# Altium integrated library Linear Technology Power Management Switching Regulator LT1074-LT8705.IntLib: 2252 symbols (part 106 of 148)
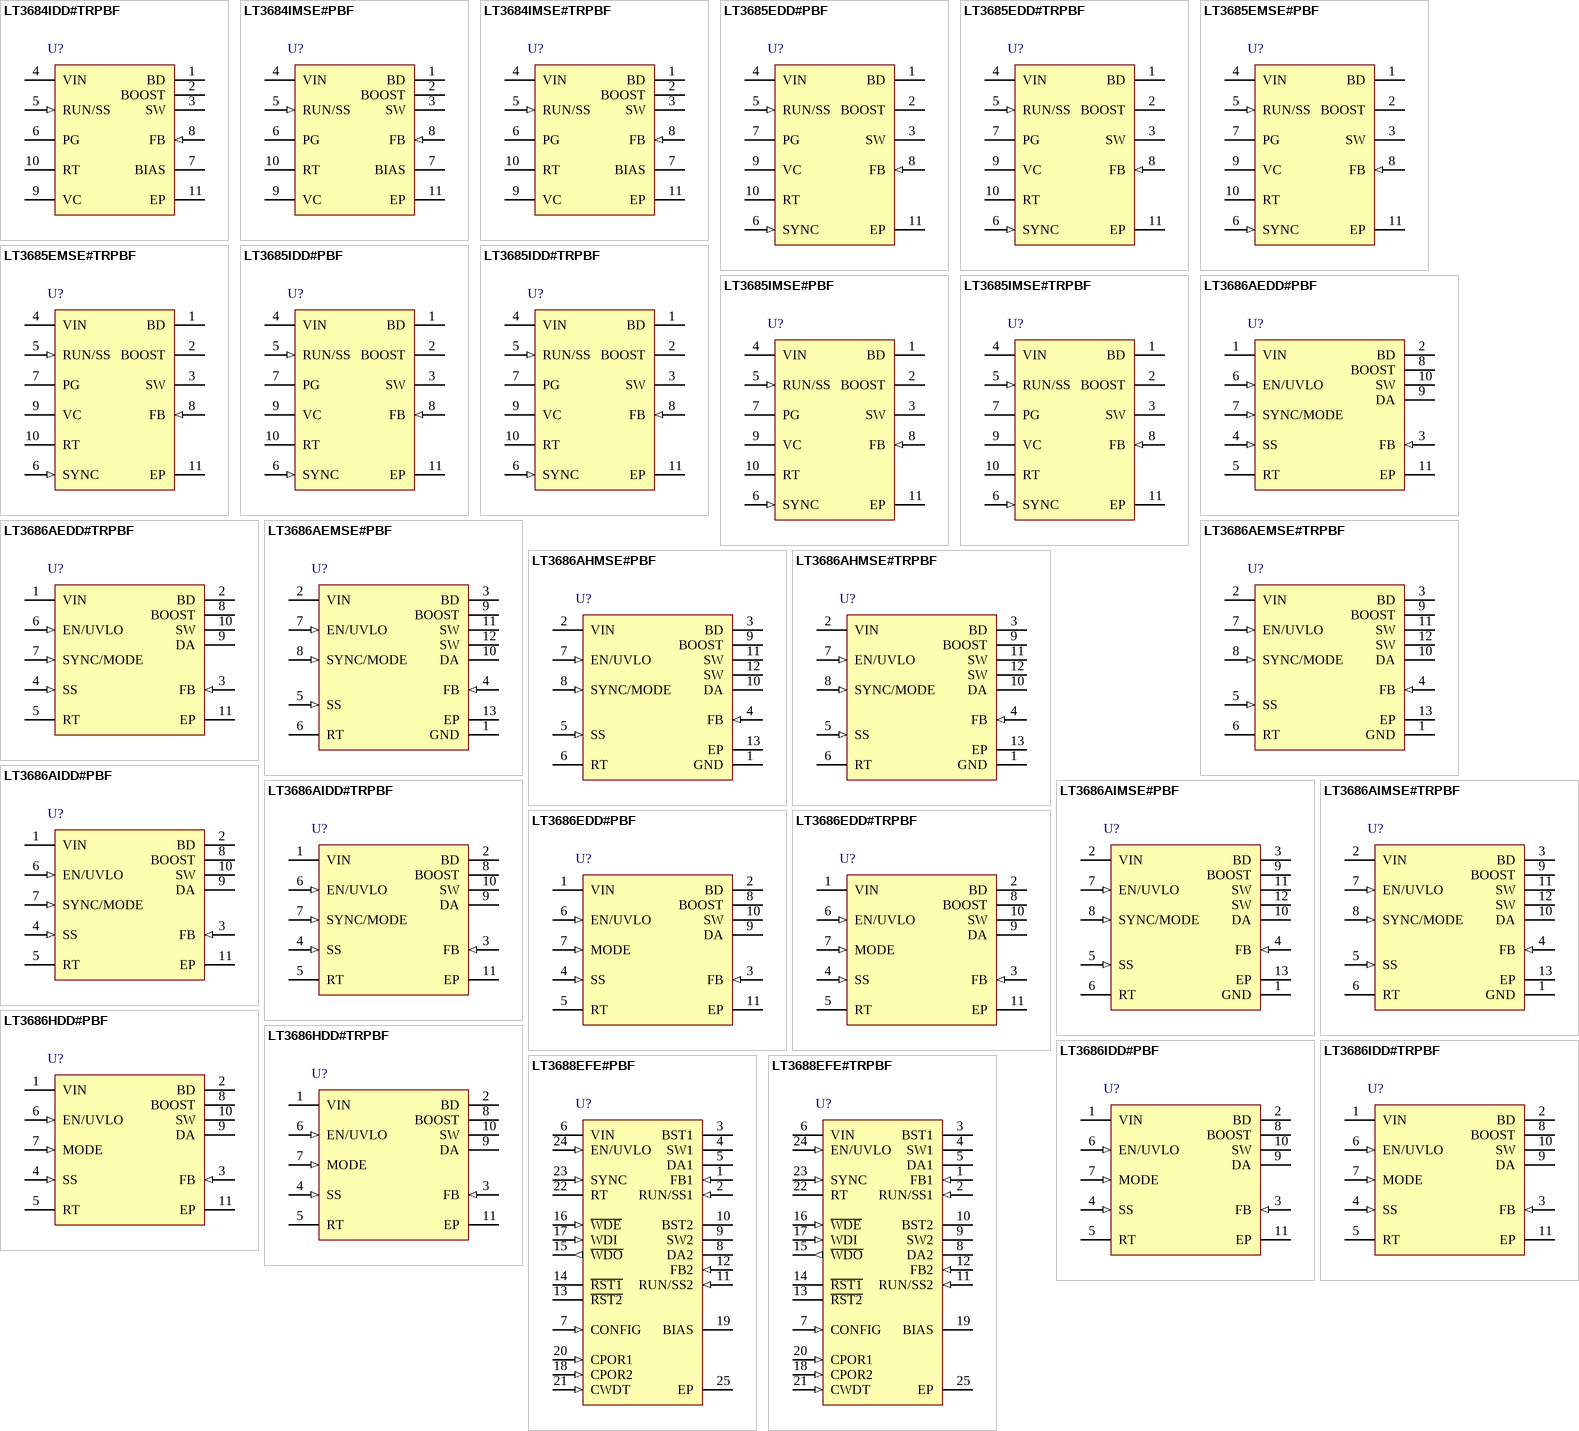
[diagram p176: symbols LT3684IDD#TRPBF to LT3688EFE#TRPBF]

## LT3685EMSE#PBF
designator U?
2 A, 2.4 MHz Step Down Switching Regulator, 10-pin SOP (MSE-10-EDP), -40 to 125 degC, Pb-Free; Manufacturer: Linear Technology; PartNumber: LT3685EMSE#PBF; Frequency Adjust Range: 200kHz - 2.4MHz; Number of Outputs: 1; Over Voltage Protection(V): 60; DatasheetVersion: Rev. B; PackageVersion: Rev. C, 08/2009; PackageReference: MSE-10; PackageDescription: 10-Pin Plastic MSOP, Exposed Die Pad, Body 3 x 3 mm, Pitch 0.5 mm; Supplier 1: Digi-Key; Supplier Part Number 1: LT3685EMSE#PBF-ND; Supplier 2: Farnell; Supplier Part Number 2: 1663580; Supplier 3: Newark; Supplier Part Number 3: 57M8562; RoHS: TRUE; Mounting Technology: Surface Mount; ComponentLink1Description: Manufacturer URL; ComponentLink1URL: http://www.linear.com/; ComponentLink2Description: Datasheet; ComponentLink2URL: http://cds.linear.com/docs/en/datasheet/3685fb.pdf; ComponentLink3Description: Package Specification; ComponentLink3URL: http://cds.linear.com/docs/en/datasheet/3481fc.pdf
footprint LT-MSE-10-EDP-2060x1830TP_N (SOP, 10-Leads, Body 3.1x3.1mm, Pitch 0.5mm, Thermal Pad 2.17x1.94mm, IPC Medium Density)
footprint LT-MSE-10-EDP-2060x1830TP_L (SOP, 10-Leads, Body 3.1x3.1mm, Pitch 0.5mm, Thermal Pad 2.17x1.94mm, IPC High Density)
footprint LT-MSE-10-EDP-2060x1830TP_M (SOP, 10-Leads, Body 3.1x3.1mm, Pitch 0.5mm, Thermal Pad 2.17x1.94mm, IPC Low Density)
pins: 1 BD (power) "This pin connects to the anode of the boost Schottky diode. BD also supplies current to the internal regulator.", 2 BOOST "This pin is used to provide a drive voltage, higher than the input voltage, to the internal bipolar NPN power switch.", 3 SW (power) "The SW pin is the output of the internal power switch. Connect this pin to the inductor, catch diode and boost capacitor.", 4 VIN (power) "The VIN pin supplies current to internal regulator and to the internal power switch. This pin must be locally bypassed.", 5 RUN/SS (in) "If the shutdown feature is not used, tie this pin to the VIN pin. RUN/SS also provides a soft-start function; see the Applications Information section.", 6 SYNC (in) "This is the external clock synchronization input. Ground this pin for low ripple Burst Mode operation at low output loads. Tie to a clock source for synchronization. Clock edges should have rise and fall times faster than (See Datasheet)", 7 PG (oc) "The PG pin is the open collector output of an internal comparator. PG remains low until the FB pin is within 9% of the final regulation voltage. PG output is valid when VIN is above 3.6V and RUN/SS is high.", 8 FB (in) "Connect the feedback resistor divider tap to this pin.", 9 VC "The VC pin is the output of the internal error amplifier. The voltage on this pin controls the peak switch current. Tie an RC network from this pin to ground to compensate the control loop.", 10 RT "Oscillator Resistor Input. Connecting a resistor to ground from this pin sets the switching frequency.", 11 EP (power) "Ground. The Exposed Pad must be soldered to PCB."

## LT3685EMSE#TRPBF
designator U?
2 A, 2.4 MHz Step Down Switching Regulator, 10-pin SOP (MSE-10-EDP), -40 to 125 degC, Pb-Free, Tape and Reel; Manufacturer: Linear Technology; PartNumber: LT3685EMSE#TRPBF; Frequency Adjust Range: 200kHz - 2.4MHz; Number of Outputs: 1; Over Voltage Protection(V): 60; DatasheetVersion: Rev. B; PackageVersion: Rev. C, 08/2009; PackageReference: MSE-10; PackageDescription: 10-Pin Plastic MSOP, Exposed Die Pad, Body 3 x 3 mm, Pitch 0.5 mm; Supplier 1: Digi-Key; Supplier Part Number 1: LT3685EMSE#TRPBF-ND; Supplier 2: Newark; Supplier Part Number 2: 57M8563; Packing: Tape and Reel; RoHS: TRUE; Mounting Technology: Surface Mount; ComponentLink1Description: Manufacturer URL; ComponentLink1URL: http://www.linear.com/; ComponentLink2Description: Datasheet; ComponentLink2URL: http://cds.linear.com/docs/en/datasheet/3685fb.pdf; ComponentLink3Description: Package Specification; ComponentLink3URL: http://cds.linear.com/docs/en/datasheet/3481fc.pdf
footprint LT-MSE-10-EDP-2060x1830TP_N (SOP, 10-Leads, Body 3.1x3.1mm, Pitch 0.5mm, Thermal Pad 2.17x1.94mm, IPC Medium Density)
footprint LT-MSE-10-EDP-2060x1830TP_L (SOP, 10-Leads, Body 3.1x3.1mm, Pitch 0.5mm, Thermal Pad 2.17x1.94mm, IPC High Density)
footprint LT-MSE-10-EDP-2060x1830TP_M (SOP, 10-Leads, Body 3.1x3.1mm, Pitch 0.5mm, Thermal Pad 2.17x1.94mm, IPC Low Density)
pins: 1 BD (power) "This pin connects to the anode of the boost Schottky diode. BD also supplies current to the internal regulator.", 2 BOOST "This pin is used to provide a drive voltage, higher than the input voltage, to the internal bipolar NPN power switch.", 3 SW (power) "The SW pin is the output of the internal power switch. Connect this pin to the inductor, catch diode and boost capacitor.", 4 VIN (power) "The VIN pin supplies current to internal regulator and to the internal power switch. This pin must be locally bypassed.", 5 RUN/SS (in) "If the shutdown feature is not used, tie this pin to the VIN pin. RUN/SS also provides a soft-start function; see the Applications Information section.", 6 SYNC (in) "This is the external clock synchronization input. Ground this pin for low ripple Burst Mode operation at low output loads. Tie to a clock source for synchronization. Clock edges should have rise and fall times faster than (See Datasheet)", 7 PG (oc) "The PG pin is the open collector output of an internal comparator. PG remains low until the FB pin is within 9% of the final regulation voltage. PG output is valid when VIN is above 3.6V and RUN/SS is high.", 8 FB (in) "Connect the feedback resistor divider tap to this pin.", 9 VC "The VC pin is the output of the internal error amplifier. The voltage on this pin controls the peak switch current. Tie an RC network from this pin to ground to compensate the control loop.", 10 RT "Oscillator Resistor Input. Connecting a resistor to ground from this pin sets the switching frequency.", 11 EP (power) "Ground. The Exposed Pad must be soldered to PCB."

## LT3685IDD#PBF
designator U?
2 A, 2.4 MHz Step Down Switching Regulator, 10-pin SON (DD-10), -40 to 125 degC, Pb-Free; Manufacturer: Linear Technology; PartNumber: LT3685IDD#PBF; Frequency Adjust Range: 200kHz - 2.4MHz; Number of Outputs: 1; Over Voltage Protection(V): 60; DatasheetVersion: Rev. B; PackageVersion: Rev. C, 06/2010; PackageReference: DD-10; PackageDescription: 10-Pin Plastic DFN, Body 3 x 3 mm, Pitch 0.5 mm; Supplier 1: Digi-Key; Supplier Part Number 1: LT3685IDD#PBF-ND; Supplier 2: Newark; Supplier Part Number 2: 57M8564; RoHS: TRUE; Mounting Technology: Surface Mount; Code_JEDEC: MO-229; ComponentLink1Description: Manufacturer URL; ComponentLink1URL: http://www.linear.com/; ComponentLink2Description: Datasheet; ComponentLink2URL: http://cds.linear.com/docs/en/datasheet/3685fb.pdf; ComponentLink3Description: Package Specification; ComponentLink3URL: http://cds.linear.com/docs/en/packaging/DFN_10_05-08-1699.pdf
footprint LT-DD-10_V (SON, 10-Leads, Body 3x3mm, Pitch 0.5mm, Thermal Pad 2.38x1.65mm)
pins: 1 BD (power) "This pin connects to the anode of the boost Schottky diode. BD also supplies current to the internal regulator.", 2 BOOST "This pin is used to provide a drive voltage, higher than the input voltage, to the internal bipolar NPN power switch.", 3 SW (power) "The SW pin is the output of the internal power switch. Connect this pin to the inductor, catch diode and boost capacitor.", 4 VIN (power) "The VIN pin supplies current to internal regulator and to the internal power switch. This pin must be locally bypassed.", 5 RUN/SS (in) "If the shutdown feature is not used, tie this pin to the VIN pin. RUN/SS also provides a soft-start function; see the Applications Information section.", 6 SYNC (in) "This is the external clock synchronization input. Ground this pin for low ripple Burst Mode operation at low output loads. Tie to a clock source for synchronization. Clock edges should have rise and fall times faster than (See Datasheet)", 7 PG (oc) "The PG pin is the open collector output of an internal comparator. PG remains low until the FB pin is within 9% of the final regulation voltage. PG output is valid when VIN is above 3.6V and RUN/SS is high.", 8 FB (in) "Connect the feedback resistor divider tap to this pin.", 9 VC "The VC pin is the output of the internal error amplifier. The voltage on this pin controls the peak switch current. Tie an RC network from this pin to ground to compensate the control loop.", 10 RT "Oscillator Resistor Input. Connecting a resistor to ground from this pin sets the switching frequency.", 11 EP (power) "Ground. The Exposed Pad must be soldered to PCB."

## LT3685IDD#TRPBF
designator U?
2 A, 2.4 MHz Step Down Switching Regulator, 10-pin SON (DD-10), -40 to 125 degC, Pb-Free, Tape and Reel; Manufacturer: Linear Technology; PartNumber: LT3685IDD#TRPBF; Frequency Adjust Range: 200kHz - 2.4MHz; Number of Outputs: 1; Over Voltage Protection(V): 60; DatasheetVersion: Rev. B; PackageVersion: Rev. C, 06/2010; PackageReference: DD-10; PackageDescription: 10-Pin Plastic DFN, Body 3 x 3 mm, Pitch 0.5 mm; Supplier 1: Digi-Key; Supplier Part Number 1: LT3685IDD#TRPBF-ND; Packing: Tape and Reel; RoHS: TRUE; Mounting Technology: Surface Mount; Code_JEDEC: MO-229; ComponentLink1Description: Manufacturer URL; ComponentLink1URL: http://www.linear.com/; ComponentLink2Description: Datasheet; ComponentLink2URL: http://cds.linear.com/docs/en/datasheet/3685fb.pdf; ComponentLink3Description: Package Specification; ComponentLink3URL: http://cds.linear.com/docs/en/packaging/DFN_10_05-08-1699.pdf
footprint LT-DD-10_V (SON, 10-Leads, Body 3x3mm, Pitch 0.5mm, Thermal Pad 2.38x1.65mm)
pins: 1 BD (power) "This pin connects to the anode of the boost Schottky diode. BD also supplies current to the internal regulator.", 2 BOOST "This pin is used to provide a drive voltage, higher than the input voltage, to the internal bipolar NPN power switch.", 3 SW (power) "The SW pin is the output of the internal power switch. Connect this pin to the inductor, catch diode and boost capacitor.", 4 VIN (power) "The VIN pin supplies current to internal regulator and to the internal power switch. This pin must be locally bypassed.", 5 RUN/SS (in) "If the shutdown feature is not used, tie this pin to the VIN pin. RUN/SS also provides a soft-start function; see the Applications Information section.", 6 SYNC (in) "This is the external clock synchronization input. Ground this pin for low ripple Burst Mode operation at low output loads. Tie to a clock source for synchronization. Clock edges should have rise and fall times faster than (See Datasheet)", 7 PG (oc) "The PG pin is the open collector output of an internal comparator. PG remains low until the FB pin is within 9% of the final regulation voltage. PG output is valid when VIN is above 3.6V and RUN/SS is high.", 8 FB (in) "Connect the feedback resistor divider tap to this pin.", 9 VC "The VC pin is the output of the internal error amplifier. The voltage on this pin controls the peak switch current. Tie an RC network from this pin to ground to compensate the control loop.", 10 RT "Oscillator Resistor Input. Connecting a resistor to ground from this pin sets the switching frequency.", 11 EP (power) "Ground. The Exposed Pad must be soldered to PCB."

## LT3685IMSE#PBF
designator U?
2 A, 2.4 MHz Step Down Switching Regulator, 10-pin SOP (MSE-10-EDP), -40 to 125 degC, Pb-Free; Manufacturer: Linear Technology; PartNumber: LT3685IMSE#PBF; Frequency Adjust Range: 200kHz - 2.4MHz; Number of Outputs: 1; Over Voltage Protection(V): 60; DatasheetVersion: Rev. B; PackageVersion: Rev. C, 08/2009; PackageReference: MSE-10; PackageDescription: 10-Pin Plastic MSOP, Exposed Die Pad, Body 3 x 3 mm, Pitch 0.5 mm; Supplier 1: Digi-Key; Supplier Part Number 1: LT3685IMSE#PBF-ND; Supplier 2: Farnell; Supplier Part Number 2: 2294942; Supplier 3: Newark; Supplier Part Number 3: 57M8566; RoHS: TRUE; Mounting Technology: Surface Mount; ComponentLink1Description: Manufacturer URL; ComponentLink1URL: http://www.linear.com/; ComponentLink2Description: Datasheet; ComponentLink2URL: http://cds.linear.com/docs/en/datasheet/3685fb.pdf; ComponentLink3Description: Package Specification; ComponentLink3URL: http://cds.linear.com/docs/en/datasheet/3481fc.pdf
footprint LT-MSE-10-EDP-2060x1830TP_N (SOP, 10-Leads, Body 3.1x3.1mm, Pitch 0.5mm, Thermal Pad 2.17x1.94mm, IPC Medium Density)
footprint LT-MSE-10-EDP-2060x1830TP_L (SOP, 10-Leads, Body 3.1x3.1mm, Pitch 0.5mm, Thermal Pad 2.17x1.94mm, IPC High Density)
footprint LT-MSE-10-EDP-2060x1830TP_M (SOP, 10-Leads, Body 3.1x3.1mm, Pitch 0.5mm, Thermal Pad 2.17x1.94mm, IPC Low Density)
pins: 1 BD (power) "This pin connects to the anode of the boost Schottky diode. BD also supplies current to the internal regulator.", 2 BOOST "This pin is used to provide a drive voltage, higher than the input voltage, to the internal bipolar NPN power switch.", 3 SW (power) "The SW pin is the output of the internal power switch. Connect this pin to the inductor, catch diode and boost capacitor.", 4 VIN (power) "The VIN pin supplies current to internal regulator and to the internal power switch. This pin must be locally bypassed.", 5 RUN/SS (in) "If the shutdown feature is not used, tie this pin to the VIN pin. RUN/SS also provides a soft-start function; see the Applications Information section.", 6 SYNC (in) "This is the external clock synchronization input. Ground this pin for low ripple Burst Mode operation at low output loads. Tie to a clock source for synchronization. Clock edges should have rise and fall times faster than (See Datasheet)", 7 PG (oc) "The PG pin is the open collector output of an internal comparator. PG remains low until the FB pin is within 9% of the final regulation voltage. PG output is valid when VIN is above 3.6V and RUN/SS is high.", 8 FB (in) "Connect the feedback resistor divider tap to this pin.", 9 VC "The VC pin is the output of the internal error amplifier. The voltage on this pin controls the peak switch current. Tie an RC network from this pin to ground to compensate the control loop.", 10 RT "Oscillator Resistor Input. Connecting a resistor to ground from this pin sets the switching frequency.", 11 EP (power) "Ground. The Exposed Pad must be soldered to PCB."

## LT3685IMSE#TRPBF
designator U?
2 A, 2.4 MHz Step Down Switching Regulator, 10-pin SOP (MSE-10-EDP), -40 to 125 degC, Pb-Free, Tape and Reel; Manufacturer: Linear Technology; PartNumber: LT3685IMSE#TRPBF; Frequency Adjust Range: 200kHz - 2.4MHz; Number of Outputs: 1; Over Voltage Protection(V): 60; DatasheetVersion: Rev. B; PackageVersion: Rev. C, 08/2009; PackageReference: MSE-10; PackageDescription: 10-Pin Plastic MSOP, Exposed Die Pad, Body 3 x 3 mm, Pitch 0.5 mm; Supplier 1: Digi-Key; Supplier Part Number 1: LT3685IMSE#TRPBF-ND; Supplier 2: Newark; Supplier Part Number 2: 57M8567; Packing: Tape and Reel; RoHS: TRUE; Mounting Technology: Surface Mount; ComponentLink1Description: Manufacturer URL; ComponentLink1URL: http://www.linear.com/; ComponentLink2Description: Datasheet; ComponentLink2URL: http://cds.linear.com/docs/en/datasheet/3685fb.pdf; ComponentLink3Description: Package Specification; ComponentLink3URL: http://cds.linear.com/docs/en/datasheet/3481fc.pdf
footprint LT-MSE-10-EDP-2060x1830TP_N (SOP, 10-Leads, Body 3.1x3.1mm, Pitch 0.5mm, Thermal Pad 2.17x1.94mm, IPC Medium Density)
footprint LT-MSE-10-EDP-2060x1830TP_L (SOP, 10-Leads, Body 3.1x3.1mm, Pitch 0.5mm, Thermal Pad 2.17x1.94mm, IPC High Density)
footprint LT-MSE-10-EDP-2060x1830TP_M (SOP, 10-Leads, Body 3.1x3.1mm, Pitch 0.5mm, Thermal Pad 2.17x1.94mm, IPC Low Density)
pins: 1 BD (power) "This pin connects to the anode of the boost Schottky diode. BD also supplies current to the internal regulator.", 2 BOOST "This pin is used to provide a drive voltage, higher than the input voltage, to the internal bipolar NPN power switch.", 3 SW (power) "The SW pin is the output of the internal power switch. Connect this pin to the inductor, catch diode and boost capacitor.", 4 VIN (power) "The VIN pin supplies current to internal regulator and to the internal power switch. This pin must be locally bypassed.", 5 RUN/SS (in) "If the shutdown feature is not used, tie this pin to the VIN pin. RUN/SS also provides a soft-start function; see the Applications Information section.", 6 SYNC (in) "This is the external clock synchronization input. Ground this pin for low ripple Burst Mode operation at low output loads. Tie to a clock source for synchronization. Clock edges should have rise and fall times faster than (See Datasheet)", 7 PG (oc) "The PG pin is the open collector output of an internal comparator. PG remains low until the FB pin is within 9% of the final regulation voltage. PG output is valid when VIN is above 3.6V and RUN/SS is high.", 8 FB (in) "Connect the feedback resistor divider tap to this pin.", 9 VC "The VC pin is the output of the internal error amplifier. The voltage on this pin controls the peak switch current. Tie an RC network from this pin to ground to compensate the control loop.", 10 RT "Oscillator Resistor Input. Connecting a resistor to ground from this pin sets the switching frequency.", 11 EP (power) "Ground. The Exposed Pad must be soldered to PCB."

## LT3686AEDD#PBF
designator U?
1.2 A Step-Down Regulator, 10-pin SON (DD-10), -40 to 125 degC, Pb-Free; Manufacturer: Linear Technology; PartNumber: LT3686AEDD#PBF; Frequency Adjust Range: 300kHz - 2.5MHz; Number of Outputs: 1; Over Voltage Protection(V): 60; DatasheetVersion: Rev. A; PackageVersion: Rev. C, 06/2010; PackageReference: DD-10; PackageDescription: 10-Pin Plastic DFN, Body 3 x 3 mm, Pitch 0.5 mm; Supplier 1: Digi-Key; Supplier Part Number 1: LT3686AEDD#PBF-ND; Supplier 2: Farnell; Supplier Part Number 2: 1868077; Supplier 3: Newark; Supplier Part Number 3: 13T8490; RoHS: TRUE; Mounting Technology: Surface Mount; Code_JEDEC: MO-229; ComponentLink1Description: Manufacturer URL; ComponentLink1URL: http://www.linear.com/; ComponentLink2Description: Datasheet; ComponentLink2URL: http://cds.linear.com/docs/en/datasheet/3686afa.pdf; ComponentLink3Description: Package Specification; ComponentLink3URL: http://cds.linear.com/docs/en/packaging/DFN_10_05-08-1699.pdf
footprint LT-DD-10_V (SON, 10-Leads, Body 3x3mm, Pitch 0.5mm, Thermal Pad 2.38x1.65mm)
pins: 1 VIN (power) "The VIN pin supplies current to theLT3686A’s internal regulator and to the internal power switch. This pin must be locally bypassed.", 2 BD (power) "When the SYNC/MODE Pin is driven with clock pulses or tied greater than 0.8V, the LT3686A will prevent pulse-skipping at light loads by regulating an active load on the BD pin; see Applications Information section Fixed (See Datasheet)", 3 FB (in) "The LT3686A regulates its feedback pin to 0.8V. Connect the feedback resistor divider tap to this pin. Set the output voltage according to VOUT = 0.8(1 + R1/R2). A good value for R2 is 10k.", 4 SS (in) "Provides Soft-Start and Tracking. An internal 2uA current source tied to a 2.5V reference supplies current to this pin to charge an external capacitor to create a voltage ramp at the pin. Feedback voltage and switching (See Datasheet)", 5 RT "The RT pin is used to program the oscillator frequency. Select the value of RT resistor according to Table 1 in the applications section of the data sheet.", 6 EN/UVLO (in) "The EN/UVLO pin is used to start up the LT3686A. Pull the pin below 0.4V to shutdown theLT3686A. The 1.27V threshold can function as an accurate undervoltagelockout (UVLO), preventing the regulator from operating until the (See Datasheet)", 7 SYNC/MODE (in) "The SYNC/MODE pin is used to synchronize the internal oscillator of the LT3686A to an external signal. The SYNC signal can be driven by am signal with pulse width of at least 200ns on and off time. The SYNC/MODE Pin also (See Datasheet)", 8 BOOST "The BOOST pin is used to provide a drive voltage, higher than the input voltage, to the internal bipolar NPN power switch.", 9 DA "Connect catch diode (D1) anode to this pin.", 10 SW (power) "The SW pin is the output of the internal power switch. Connect this pin to the inductor, catch diode and boost capacitor.", 11 EP (power) "The exposed pad GND pin is the only ground connection for the device. The exposed pad should be soldered to a large copper area to reduce thermal resistance."

## LT3686AEDD#TRPBF
designator U?
1.2 A Step-Down Regulator, 10-pin SON (DD-10), -40 to 125 degC, Pb-Free, Tape and Reel; Manufacturer: Linear Technology; PartNumber: LT3686AEDD#TRPBF; Frequency Adjust Range: 300kHz - 2.5MHz; Number of Outputs: 1; Over Voltage Protection(V): 60; DatasheetVersion: Rev. A; PackageVersion: Rev. C, 06/2010; PackageReference: DD-10; PackageDescription: 10-Pin Plastic DFN, Body 3 x 3 mm, Pitch 0.5 mm; Supplier 1: Digi-Key; Supplier Part Number 1: LT3686AEDD#TRPBF-ND; Packing: Tape and Reel; RoHS: TRUE; Mounting Technology: Surface Mount; Code_JEDEC: MO-229; ComponentLink1Description: Manufacturer URL; ComponentLink1URL: http://www.linear.com/; ComponentLink2Description: Datasheet; ComponentLink2URL: http://cds.linear.com/docs/en/datasheet/3686afa.pdf; ComponentLink3Description: Package Specification; ComponentLink3URL: http://cds.linear.com/docs/en/packaging/DFN_10_05-08-1699.pdf
footprint LT-DD-10_V (SON, 10-Leads, Body 3x3mm, Pitch 0.5mm, Thermal Pad 2.38x1.65mm)
pins: 1 VIN (power) "The VIN pin supplies current to theLT3686A’s internal regulator and to the internal power switch. This pin must be locally bypassed.", 2 BD (power) "When the SYNC/MODE Pin is driven with clock pulses or tied greater than 0.8V, the LT3686A will prevent pulse-skipping at light loads by regulating an active load on the BD pin; see Applications Information section Fixed (See Datasheet)", 3 FB (in) "The LT3686A regulates its feedback pin to 0.8V. Connect the feedback resistor divider tap to this pin. Set the output voltage according to VOUT = 0.8(1 + R1/R2). A good value for R2 is 10k.", 4 SS (in) "Provides Soft-Start and Tracking. An internal 2uA current source tied to a 2.5V reference supplies current to this pin to charge an external capacitor to create a voltage ramp at the pin. Feedback voltage and switching (See Datasheet)", 5 RT "The RT pin is used to program the oscillator frequency. Select the value of RT resistor according to Table 1 in the applications section of the data sheet.", 6 EN/UVLO (in) "The EN/UVLO pin is used to start up the LT3686A. Pull the pin below 0.4V to shutdown theLT3686A. The 1.27V threshold can function as an accurate undervoltagelockout (UVLO), preventing the regulator from operating until the (See Datasheet)", 7 SYNC/MODE (in) "The SYNC/MODE pin is used to synchronize the internal oscillator of the LT3686A to an external signal. The SYNC signal can be driven by am signal with pulse width of at least 200ns on and off time. The SYNC/MODE Pin also (See Datasheet)", 8 BOOST "The BOOST pin is used to provide a drive voltage, higher than the input voltage, to the internal bipolar NPN power switch.", 9 DA "Connect catch diode (D1) anode to this pin.", 10 SW (power) "The SW pin is the output of the internal power switch. Connect this pin to the inductor, catch diode and boost capacitor.", 11 EP (power) "The exposed pad GND pin is the only ground connection for the device. The exposed pad should be soldered to a large copper area to reduce thermal resistance."

## LT3686AEMSE#PBF
designator U?
1.2 A Step-Down Regulator, 12-pin SOP (MSE-12-EDP), -40 to 125 degC, Pb-Free; Manufacturer: Linear Technology; PartNumber: LT3686AEMSE#PBF; Frequency Adjust Range: 300kHz - 2.5MHz; Number of Outputs: 1; Over Voltage Protection(V): 60; DatasheetVersion: Rev. A; PackageVersion: Rev. G, 05/2013; PackageReference: MSE-12-EDP; PackageDescription: 12-Pin Plastic MSOP, Exposed Die Pad, Body 4.039 x 3 mm, Pitch 0.65 mm; Supplier 1: Digi-Key; Supplier Part Number 1: LT3686AEMSE#PBF-ND; Supplier 2: Farnell; Supplier Part Number 2: 1868078; Supplier 3: Newark; Supplier Part Number 3: 13T8492; RoHS: TRUE; Mounting Technology: Surface Mount; ComponentLink1Description: Manufacturer URL; ComponentLink1URL: http://www.linear.com/; ComponentLink2Description: Datasheet; ComponentLink2URL: http://cds.linear.com/docs/en/datasheet/3686afa.pdf; ComponentLink3Description: Package Specification; ComponentLink3URL: http://cds.linear.com/docs/en/packaging/05081666_G_MSE12.pdf
footprint LT-MSE-12-EDP_N (SOP, 12-Leads, Body 4.1x3.1mm, Pitch 0.65mm, Thermal Pad 2.95x1.76mm, IPC Medium Density)
footprint LT-MSE-12-EDP_L (SOP, 12-Leads, Body 4.1x3.1mm, Pitch 0.65mm, Thermal Pad 2.95x1.76mm, IPC High Density)
footprint LT-MSE-12-EDP_M (SOP, 12-Leads, Body 4.1x3.1mm, Pitch 0.65mm, Thermal Pad 2.95x1.76mm, IPC Low Density)
pins: 1 GND (power) "The exposed pad GND pin is the only ground connection for the device. The exposed pad should be soldered to a large copper area to reduce thermal resistance.", 2 VIN (power) "The VIN pin supplies current to the LT3686A's internal regulator and to the internal power switch. This pin must be locally bypassed.", 3 BD (power) "When the SYNC/MODE Pin is driven with clock pulses or tied greater than 0.8V, the LT3686A will prevent pulse-skipping at light loads by regulating an active load on the BD pin; see Applications Information section Fixed (See Datasheet)", 4 FB (in) "The LT3686A regulates its feedback pin to 0.8V. Connect the feedback resistor divider tap to this pin. Set the output voltage according to: R1=R2( VOUT/ 0.8V - 1)  A good value for R2 is 10k.", 5 SS (in) "Provides Soft-Start and Tracking. An internal 2uA current source tied to a 2.5V reference supplies current to this pin to charge an external capacitor to create a voltage ramp at the pin. Feedback voltage and switching (See Datasheet)", 6 RT "The RT pin is used to program the oscillator frequency. Select the value of RT resistor according to table 1 in the applications section of the data sheet.", 7 EN/UVLO (in) "The EN/UVLO pin is used to start up the LT3686A. Pull the pin below 0.4V to shutdown the LT3686A. The 1.28V threshold can function as an accurate undervoltage lockout (UVLO), preventing the regulator from operating until the (See Datasheet)", 8 SYNC/MODE (in) "The SYNC/MODE pin is used to synchronize the internal oscillator of the LT3686A to an external signal. The SYNC signal can be driven by a signal with pulse width of at least 200ns on and off time. The SYNC/MODE Pin also acts (See Datasheet)", 9 BOOST "The BOOST pin is used to provide a drive voltage, higher than the input voltage, to the internal bipolar NPN power switch.", 10 DA "Connect catch diode (D1) anode to this pin.", 11 SW (power) "The SW pin is the output of the internal power switch. Connect this pin to the inductor, catch diode and boost capacitor.", 12 SW (power) "The SW pin is the output of the internal power switch. Connect this pin to the inductor, catch diode and boost capacitor.", 13 EP (power) "The exposed pad GND pin is the only ground connection for the device. The exposed pad should be soldered to a large copper area to reduce thermal resistance."

## LT3686AEMSE#TRPBF
designator U?
1.2 A Step-Down Regulator, 12-pin SOP (MSE-12-EDP), -40 to 125 degC, Pb-Free, Tape and Reel; Manufacturer: Linear Technology; PartNumber: LT3686AEMSE#TRPBF; Frequency Adjust Range: 300kHz - 2.5MHz; Number of Outputs: 1; Over Voltage Protection(V): 60; DatasheetVersion: Rev. A; PackageVersion: Rev. G, 05/2013; PackageReference: MSE-12-EDP; PackageDescription: 12-Pin Plastic MSOP, Exposed Die Pad, Body 4.039 x 3 mm, Pitch 0.65 mm; Supplier 1: Digi-Key; Supplier Part Number 1: LT3686AEMSE#TRPBF-ND; Packing: Tape and Reel; RoHS: TRUE; Mounting Technology: Surface Mount; ComponentLink1Description: Manufacturer URL; ComponentLink1URL: http://www.linear.com/; ComponentLink2Description: Datasheet; ComponentLink2URL: http://cds.linear.com/docs/en/datasheet/3686afa.pdf; ComponentLink3Description: Package Specification; ComponentLink3URL: http://cds.linear.com/docs/en/packaging/05081666_G_MSE12.pdf
footprint LT-MSE-12-EDP_N (SOP, 12-Leads, Body 4.1x3.1mm, Pitch 0.65mm, Thermal Pad 2.95x1.76mm, IPC Medium Density)
footprint LT-MSE-12-EDP_L (SOP, 12-Leads, Body 4.1x3.1mm, Pitch 0.65mm, Thermal Pad 2.95x1.76mm, IPC High Density)
footprint LT-MSE-12-EDP_M (SOP, 12-Leads, Body 4.1x3.1mm, Pitch 0.65mm, Thermal Pad 2.95x1.76mm, IPC Low Density)
pins: 1 GND (power) "The exposed pad GND pin is the only ground connection for the device. The exposed pad should be soldered to a large copper area to reduce thermal resistance.", 2 VIN (power) "The VIN pin supplies current to the LT3686A's internal regulator and to the internal power switch. This pin must be locally bypassed.", 3 BD (power) "When the SYNC/MODE Pin is driven with clock pulses or tied greater than 0.8V, the LT3686A will prevent pulse-skipping at light loads by regulating an active load on the BD pin; see Applications Information section Fixed (See Datasheet)", 4 FB (in) "The LT3686A regulates its feedback pin to 0.8V. Connect the feedback resistor divider tap to this pin. Set the output voltage according to: R1=R2( VOUT/ 0.8V - 1)  A good value for R2 is 10k.", 5 SS (in) "Provides Soft-Start and Tracking. An internal 2uA current source tied to a 2.5V reference supplies current to this pin to charge an external capacitor to create a voltage ramp at the pin. Feedback voltage and switching (See Datasheet)", 6 RT "The RT pin is used to program the oscillator frequency. Select the value of RT resistor according to table 1 in the applications section of the data sheet.", 7 EN/UVLO (in) "The EN/UVLO pin is used to start up the LT3686A. Pull the pin below 0.4V to shutdown the LT3686A. The 1.28V threshold can function as an accurate undervoltage lockout (UVLO), preventing the regulator from operating until the (See Datasheet)", 8 SYNC/MODE (in) "The SYNC/MODE pin is used to synchronize the internal oscillator of the LT3686A to an external signal. The SYNC signal can be driven by a signal with pulse width of at least 200ns on and off time. The SYNC/MODE Pin also acts (See Datasheet)", 9 BOOST "The BOOST pin is used to provide a drive voltage, higher than the input voltage, to the internal bipolar NPN power switch.", 10 DA "Connect catch diode (D1) anode to this pin.", 11 SW (power) "The SW pin is the output of the internal power switch. Connect this pin to the inductor, catch diode and boost capacitor.", 12 SW (power) "The SW pin is the output of the internal power switch. Connect this pin to the inductor, catch diode and boost capacitor.", 13 EP (power) "The exposed pad GND pin is the only ground connection for the device. The exposed pad should be soldered to a large copper area to reduce thermal resistance."

## LT3686AHMSE#PBF
designator U?
1.2 A Step-Down Regulator, 12-pin SOP (MSE-12-EDP), -40 to 150 degC, Pb-Free; Manufacturer: Linear Technology; PartNumber: LT3686AHMSE#PBF; Frequency Adjust Range: 300kHz - 2.5MHz; Number of Outputs: 1; Over Voltage Protection(V): 60; DatasheetVersion: Rev. A; PackageVersion: Rev. G, 05/2013; PackageReference: MSE-12-EDP; PackageDescription: 12-Pin Plastic MSOP, Exposed Die Pad, Body 4.039 x 3 mm, Pitch 0.65 mm; Supplier 1: Digi-Key; Supplier Part Number 1: LT3686AHMSE#PBF-ND; RoHS: TRUE; Mounting Technology: Surface Mount; ComponentLink1Description: Manufacturer URL; ComponentLink1URL: http://www.linear.com/; ComponentLink2Description: Datasheet; ComponentLink2URL: http://cds.linear.com/docs/en/datasheet/3686afa.pdf; ComponentLink3Description: Package Specification; ComponentLink3URL: http://cds.linear.com/docs/en/packaging/05081666_G_MSE12.pdf
footprint LT-MSE-12-EDP_N (SOP, 12-Leads, Body 4.1x3.1mm, Pitch 0.65mm, Thermal Pad 2.95x1.76mm, IPC Medium Density)
footprint LT-MSE-12-EDP_L (SOP, 12-Leads, Body 4.1x3.1mm, Pitch 0.65mm, Thermal Pad 2.95x1.76mm, IPC High Density)
footprint LT-MSE-12-EDP_M (SOP, 12-Leads, Body 4.1x3.1mm, Pitch 0.65mm, Thermal Pad 2.95x1.76mm, IPC Low Density)
pins: 1 GND (power) "The exposed pad GND pin is the only ground connection for the device. The exposed pad should be soldered to a large copper area to reduce thermal resistance.", 2 VIN (power) "The VIN pin supplies current to the LT3686A's internal regulator and to the internal power switch. This pin must be locally bypassed.", 3 BD (power) "When the SYNC/MODE Pin is driven with clock pulses or tied greater than 0.8V, the LT3686A will prevent pulse-skipping at light loads by regulating an active load on the BD pin; see Applications Information section Fixed (See Datasheet)", 4 FB (in) "The LT3686A regulates its feedback pin to 0.8V. Connect the feedback resistor divider tap to this pin. Set the output voltage according to: R1=R2( VOUT/ 0.8V - 1)  A good value for R2 is 10k.", 5 SS (in) "Provides Soft-Start and Tracking. An internal 2uA current source tied to a 2.5V reference supplies current to this pin to charge an external capacitor to create a voltage ramp at the pin. Feedback voltage and switching (See Datasheet)", 6 RT "The RT pin is used to program the oscillator frequency. Select the value of RT resistor according to table 1 in the applications section of the data sheet.", 7 EN/UVLO (in) "The EN/UVLO pin is used to start up the LT3686A. Pull the pin below 0.4V to shutdown the LT3686A. The 1.28V threshold can function as an accurate undervoltage lockout (UVLO), preventing the regulator from operating until the (See Datasheet)", 8 SYNC/MODE (in) "The SYNC/MODE pin is used to synchronize the internal oscillator of the LT3686A to an external signal. The SYNC signal can be driven by a signal with pulse width of at least 200ns on and off time. The SYNC/MODE Pin also acts (See Datasheet)", 9 BOOST "The BOOST pin is used to provide a drive voltage, higher than the input voltage, to the internal bipolar NPN power switch.", 10 DA "Connect catch diode (D1) anode to this pin.", 11 SW (power) "The SW pin is the output of the internal power switch. Connect this pin to the inductor, catch diode and boost capacitor.", 12 SW (power) "The SW pin is the output of the internal power switch. Connect this pin to the inductor, catch diode and boost capacitor.", 13 EP (power) "The exposed pad GND pin is the only ground connection for the device. The exposed pad should be soldered to a large copper area to reduce thermal resistance."

## LT3686AHMSE#TRPBF
designator U?
1.2 A Step-Down Regulator, 12-pin SOP (MSE-12-EDP), -40 to 150 degC, Pb-Free, Tape and Reel; Manufacturer: Linear Technology; PartNumber: LT3686AHMSE#TRPBF; Frequency Adjust Range: 300kHz - 2.5MHz; Number of Outputs: 1; Over Voltage Protection(V): 60; DatasheetVersion: Rev. A; PackageVersion: Rev. G, 05/2013; PackageReference: MSE-12-EDP; PackageDescription: 12-Pin Plastic MSOP, Exposed Die Pad, Body 4.039 x 3 mm, Pitch 0.65 mm; Supplier 1: Digi-Key; Supplier Part Number 1: LT3686AHMSE#TRPBF-ND; Packing: Tape and Reel; RoHS: TRUE; Mounting Technology: Surface Mount; ComponentLink1Description: Manufacturer URL; ComponentLink1URL: http://www.linear.com/; ComponentLink2Description: Datasheet; ComponentLink2URL: http://cds.linear.com/docs/en/datasheet/3686afa.pdf; ComponentLink3Description: Package Specification; ComponentLink3URL: http://cds.linear.com/docs/en/packaging/05081666_G_MSE12.pdf
footprint LT-MSE-12-EDP_N (SOP, 12-Leads, Body 4.1x3.1mm, Pitch 0.65mm, Thermal Pad 2.95x1.76mm, IPC Medium Density)
footprint LT-MSE-12-EDP_L (SOP, 12-Leads, Body 4.1x3.1mm, Pitch 0.65mm, Thermal Pad 2.95x1.76mm, IPC High Density)
footprint LT-MSE-12-EDP_M (SOP, 12-Leads, Body 4.1x3.1mm, Pitch 0.65mm, Thermal Pad 2.95x1.76mm, IPC Low Density)
pins: 1 GND (power) "The exposed pad GND pin is the only ground connection for the device. The exposed pad should be soldered to a large copper area to reduce thermal resistance.", 2 VIN (power) "The VIN pin supplies current to the LT3686A's internal regulator and to the internal power switch. This pin must be locally bypassed.", 3 BD (power) "When the SYNC/MODE Pin is driven with clock pulses or tied greater than 0.8V, the LT3686A will prevent pulse-skipping at light loads by regulating an active load on the BD pin; see Applications Information section Fixed (See Datasheet)", 4 FB (in) "The LT3686A regulates its feedback pin to 0.8V. Connect the feedback resistor divider tap to this pin. Set the output voltage according to: R1=R2( VOUT/ 0.8V - 1)  A good value for R2 is 10k.", 5 SS (in) "Provides Soft-Start and Tracking. An internal 2uA current source tied to a 2.5V reference supplies current to this pin to charge an external capacitor to create a voltage ramp at the pin. Feedback voltage and switching (See Datasheet)", 6 RT "The RT pin is used to program the oscillator frequency. Select the value of RT resistor according to table 1 in the applications section of the data sheet.", 7 EN/UVLO (in) "The EN/UVLO pin is used to start up the LT3686A. Pull the pin below 0.4V to shutdown the LT3686A. The 1.28V threshold can function as an accurate undervoltage lockout (UVLO), preventing the regulator from operating until the (See Datasheet)", 8 SYNC/MODE (in) "The SYNC/MODE pin is used to synchronize the internal oscillator of the LT3686A to an external signal. The SYNC signal can be driven by a signal with pulse width of at least 200ns on and off time. The SYNC/MODE Pin also acts (See Datasheet)", 9 BOOST "The BOOST pin is used to provide a drive voltage, higher than the input voltage, to the internal bipolar NPN power switch.", 10 DA "Connect catch diode (D1) anode to this pin.", 11 SW (power) "The SW pin is the output of the internal power switch. Connect this pin to the inductor, catch diode and boost capacitor.", 12 SW (power) "The SW pin is the output of the internal power switch. Connect this pin to the inductor, catch diode and boost capacitor.", 13 EP (power) "The exposed pad GND pin is the only ground connection for the device. The exposed pad should be soldered to a large copper area to reduce thermal resistance."

## LT3686AIDD#PBF
designator U?
1.2 A Step-Down Regulator, 10-pin SON (DD-10), -40 to 125 degC, Pb-Free; Manufacturer: Linear Technology; PartNumber: LT3686AIDD#PBF; Frequency Adjust Range: 300kHz - 2.5MHz; Number of Outputs: 1; Over Voltage Protection(V): 60; DatasheetVersion: Rev. A; PackageVersion: Rev. C, 06/2010; PackageReference: DD-10; PackageDescription: 10-Pin Plastic DFN, Body 3 x 3 mm, Pitch 0.5 mm; Supplier 1: Digi-Key; Supplier Part Number 1: LT3686AIDD#PBF-ND; Supplier 2: Newark; Supplier Part Number 2: 13T8496; RoHS: TRUE; Mounting Technology: Surface Mount; Code_JEDEC: MO-229; ComponentLink1Description: Manufacturer URL; ComponentLink1URL: http://www.linear.com/; ComponentLink2Description: Datasheet; ComponentLink2URL: http://cds.linear.com/docs/en/datasheet/3686afa.pdf; ComponentLink3Description: Package Specification; ComponentLink3URL: http://cds.linear.com/docs/en/packaging/DFN_10_05-08-1699.pdf
footprint LT-DD-10_V (SON, 10-Leads, Body 3x3mm, Pitch 0.5mm, Thermal Pad 2.38x1.65mm)
pins: 1 VIN (power) "The VIN pin supplies current to theLT3686A’s internal regulator and to the internal power switch. This pin must be locally bypassed.", 2 BD (power) "When the SYNC/MODE Pin is driven with clock pulses or tied greater than 0.8V, the LT3686A will prevent pulse-skipping at light loads by regulating an active load on the BD pin; see Applications Information section Fixed (See Datasheet)", 3 FB (in) "The LT3686A regulates its feedback pin to 0.8V. Connect the feedback resistor divider tap to this pin. Set the output voltage according to VOUT = 0.8(1 + R1/R2). A good value for R2 is 10k.", 4 SS (in) "Provides Soft-Start and Tracking. An internal 2uA current source tied to a 2.5V reference supplies current to this pin to charge an external capacitor to create a voltage ramp at the pin. Feedback voltage and switching (See Datasheet)", 5 RT "The RT pin is used to program the oscillator frequency. Select the value of RT resistor according to Table 1 in the applications section of the data sheet.", 6 EN/UVLO (in) "The EN/UVLO pin is used to start up the LT3686A. Pull the pin below 0.4V to shutdown theLT3686A. The 1.27V threshold can function as an accurate undervoltagelockout (UVLO), preventing the regulator from operating until the (See Datasheet)", 7 SYNC/MODE (in) "The SYNC/MODE pin is used to synchronize the internal oscillator of the LT3686A to an external signal. The SYNC signal can be driven by am signal with pulse width of at least 200ns on and off time. The SYNC/MODE Pin also (See Datasheet)", 8 BOOST "The BOOST pin is used to provide a drive voltage, higher than the input voltage, to the internal bipolar NPN power switch.", 9 DA "Connect catch diode (D1) anode to this pin.", 10 SW (power) "The SW pin is the output of the internal power switch. Connect this pin to the inductor, catch diode and boost capacitor.", 11 EP (power) "The exposed pad GND pin is the only ground connection for the device. The exposed pad should be soldered to a large copper area to reduce thermal resistance."

## LT3686AIDD#TRPBF
designator U?
1.2 A Step-Down Regulator, 10-pin SON (DD-10), -40 to 125 degC, Pb-Free, Tape and Reel; Manufacturer: Linear Technology; PartNumber: LT3686AIDD#TRPBF; Frequency Adjust Range: 300kHz - 2.5MHz; Number of Outputs: 1; Over Voltage Protection(V): 60; DatasheetVersion: Rev. A; PackageVersion: Rev. C, 06/2010; PackageReference: DD-10; PackageDescription: 10-Pin Plastic DFN, Body 3 x 3 mm, Pitch 0.5 mm; Supplier 1: Digi-Key; Supplier Part Number 1: LT3686AIDD#TRPBF-ND; Supplier 2: Newark; Supplier Part Number 2: 13T8497; Packing: Tape and Reel; RoHS: TRUE; Mounting Technology: Surface Mount; Code_JEDEC: MO-229; ComponentLink1Description: Manufacturer URL; ComponentLink1URL: http://www.linear.com/; ComponentLink2Description: Datasheet; ComponentLink2URL: http://cds.linear.com/docs/en/datasheet/3686afa.pdf; ComponentLink3Description: Package Specification; ComponentLink3URL: http://cds.linear.com/docs/en/packaging/DFN_10_05-08-1699.pdf
footprint LT-DD-10_V (SON, 10-Leads, Body 3x3mm, Pitch 0.5mm, Thermal Pad 2.38x1.65mm)
pins: 1 VIN (power) "The VIN pin supplies current to theLT3686A’s internal regulator and to the internal power switch. This pin must be locally bypassed.", 2 BD (power) "When the SYNC/MODE Pin is driven with clock pulses or tied greater than 0.8V, the LT3686A will prevent pulse-skipping at light loads by regulating an active load on the BD pin; see Applications Information section Fixed (See Datasheet)", 3 FB (in) "The LT3686A regulates its feedback pin to 0.8V. Connect the feedback resistor divider tap to this pin. Set the output voltage according to VOUT = 0.8(1 + R1/R2). A good value for R2 is 10k.", 4 SS (in) "Provides Soft-Start and Tracking. An internal 2uA current source tied to a 2.5V reference supplies current to this pin to charge an external capacitor to create a voltage ramp at the pin. Feedback voltage and switching (See Datasheet)", 5 RT "The RT pin is used to program the oscillator frequency. Select the value of RT resistor according to Table 1 in the applications section of the data sheet.", 6 EN/UVLO (in) "The EN/UVLO pin is used to start up the LT3686A. Pull the pin below 0.4V to shutdown theLT3686A. The 1.27V threshold can function as an accurate undervoltagelockout (UVLO), preventing the regulator from operating until the (See Datasheet)", 7 SYNC/MODE (in) "The SYNC/MODE pin is used to synchronize the internal oscillator of the LT3686A to an external signal. The SYNC signal can be driven by am signal with pulse width of at least 200ns on and off time. The SYNC/MODE Pin also (See Datasheet)", 8 BOOST "The BOOST pin is used to provide a drive voltage, higher than the input voltage, to the internal bipolar NPN power switch.", 9 DA "Connect catch diode (D1) anode to this pin.", 10 SW (power) "The SW pin is the output of the internal power switch. Connect this pin to the inductor, catch diode and boost capacitor.", 11 EP (power) "The exposed pad GND pin is the only ground connection for the device. The exposed pad should be soldered to a large copper area to reduce thermal resistance."

## LT3686AIMSE#PBF
designator U?
1.2 A Step-Down Regulator, 12-pin SOP (MSE-12-EDP), -40 to 125 degC, Pb-Free; Manufacturer: Linear Technology; PartNumber: LT3686AIMSE#PBF; Frequency Adjust Range: 300kHz - 2.5MHz; Number of Outputs: 1; Over Voltage Protection(V): 60; DatasheetVersion: Rev. A; PackageVersion: Rev. G, 05/2013; PackageReference: MSE-12-EDP; PackageDescription: 12-Pin Plastic MSOP, Exposed Die Pad, Body 4.039 x 3 mm, Pitch 0.65 mm; Supplier 1: Digi-Key; Supplier Part Number 1: LT3686AIMSE#PBF-ND; Supplier 2: Newark; Supplier Part Number 2: 13T8498; RoHS: TRUE; Mounting Technology: Surface Mount; ComponentLink1Description: Manufacturer URL; ComponentLink1URL: http://www.linear.com/; ComponentLink2Description: Datasheet; ComponentLink2URL: http://cds.linear.com/docs/en/datasheet/3686afa.pdf; ComponentLink3Description: Package Specification; ComponentLink3URL: http://cds.linear.com/docs/en/packaging/05081666_G_MSE12.pdf
footprint LT-MSE-12-EDP_N (SOP, 12-Leads, Body 4.1x3.1mm, Pitch 0.65mm, Thermal Pad 2.95x1.76mm, IPC Medium Density)
footprint LT-MSE-12-EDP_L (SOP, 12-Leads, Body 4.1x3.1mm, Pitch 0.65mm, Thermal Pad 2.95x1.76mm, IPC High Density)
footprint LT-MSE-12-EDP_M (SOP, 12-Leads, Body 4.1x3.1mm, Pitch 0.65mm, Thermal Pad 2.95x1.76mm, IPC Low Density)
pins: 1 GND (power) "The exposed pad GND pin is the only ground connection for the device. The exposed pad should be soldered to a large copper area to reduce thermal resistance.", 2 VIN (power) "The VIN pin supplies current to the LT3686A's internal regulator and to the internal power switch. This pin must be locally bypassed.", 3 BD (power) "When the SYNC/MODE Pin is driven with clock pulses or tied greater than 0.8V, the LT3686A will prevent pulse-skipping at light loads by regulating an active load on the BD pin; see Applications Information section Fixed (See Datasheet)", 4 FB (in) "The LT3686A regulates its feedback pin to 0.8V. Connect the feedback resistor divider tap to this pin. Set the output voltage according to: R1=R2( VOUT/ 0.8V - 1)  A good value for R2 is 10k.", 5 SS (in) "Provides Soft-Start and Tracking. An internal 2uA current source tied to a 2.5V reference supplies current to this pin to charge an external capacitor to create a voltage ramp at the pin. Feedback voltage and switching (See Datasheet)", 6 RT "The RT pin is used to program the oscillator frequency. Select the value of RT resistor according to table 1 in the applications section of the data sheet.", 7 EN/UVLO (in) "The EN/UVLO pin is used to start up the LT3686A. Pull the pin below 0.4V to shutdown the LT3686A. The 1.28V threshold can function as an accurate undervoltage lockout (UVLO), preventing the regulator from operating until the (See Datasheet)", 8 SYNC/MODE (in) "The SYNC/MODE pin is used to synchronize the internal oscillator of the LT3686A to an external signal. The SYNC signal can be driven by a signal with pulse width of at least 200ns on and off time. The SYNC/MODE Pin also acts (See Datasheet)", 9 BOOST "The BOOST pin is used to provide a drive voltage, higher than the input voltage, to the internal bipolar NPN power switch.", 10 DA "Connect catch diode (D1) anode to this pin.", 11 SW (power) "The SW pin is the output of the internal power switch. Connect this pin to the inductor, catch diode and boost capacitor.", 12 SW (power) "The SW pin is the output of the internal power switch. Connect this pin to the inductor, catch diode and boost capacitor.", 13 EP (power) "The exposed pad GND pin is the only ground connection for the device. The exposed pad should be soldered to a large copper area to reduce thermal resistance."